# EAGLE library part BK3254_F6888_MINIMAL (library bk3254_f6888)
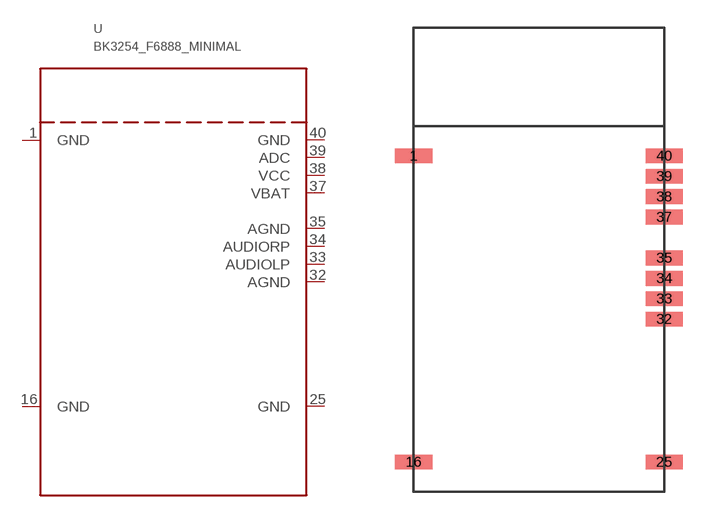
[diagram p1: symbol with the pads of F6888_MINIMAL; footprint F6888_MINIMAL]

Designator prefix -

## BK3254_F6888_MINIMAL  [F6888_MINIMAL]
1  GND
16  GND
25  GND
32  AGND
33  AUDIOLP
34  AUDIORP
35  AGND
37  VBAT
38  VCC
39  ADC
40  GND

## Footprint F6888_MINIMAL (pad centres in mm)
smd 2 x 0.8: 1 -6.75,5.6; 16 -6.75,-10.9; 25 6.75,-10.9; 32 6.75,-3.2; 33 6.75,-2.1; 34 6.75,-1; 35 6.75,0.1; 37 6.75,2.3; 38 6.75,3.4; 39 6.75,4.5; 40 6.75,5.6